# Altium footprint library PCB TV NQM.PcbLib: 11 footprints
Each footprint in its own frame and in the unit in brackets; x right, y up, seen from the top. Pads: shape width x height; smd on the part's side, far side on the other; paste and mask are expansions set on the pad; w line width, h text height; cw(c..) or ccw(c..) is an arc to the next point about the centre after c.
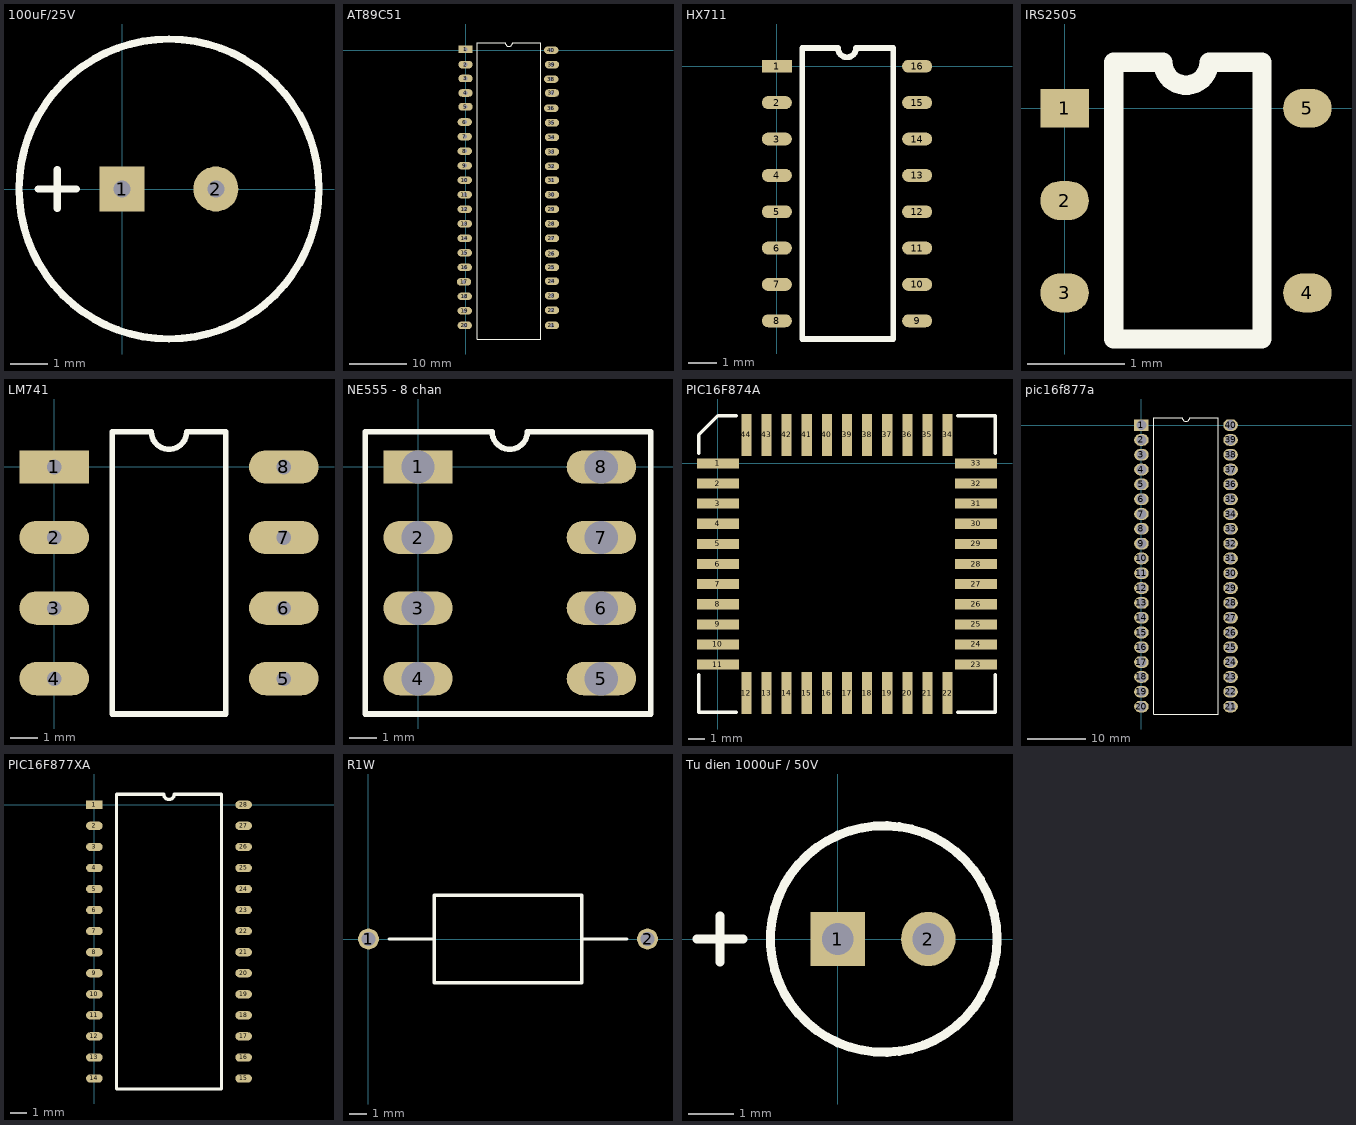
[diagram p0: the footprints below, top view; thin cyan lines are the x and y axes]

## 100uF/25V [mm]
pads (2):
  rect 1.2x1.2 hole 0.45: 1(0,0)
  round 1.2 hole 0.45: 2(2.5,0)
Top Overlay:
  circle w0.2: c1.25,0 r4
  lines w0.2: -2.243,0 -1.227,0 ; -1.735,-0.508 -1.735,0.508
3D body "User Library-UVR1E101MED-100uf 25V-1.STEP": height 11.01, standoff -2.49, extent -1.88,-3.125 4.42,3.175

## AT89C51 [mm]
pads (40):
  rect 2.5x1.33 hole 0.69: 1(0,0.127)
  oval 2.5x1.33 hole 0.69: 2(0,-2.54) 3(0,-4.953) 4(0,-7.493) 5(0,-9.906) 6(-0.127,-12.573) 7(-0.127,-15.113) 8(-0.127,-17.653) 9(-0.127,-20.193) 10(-0.127,-22.733) 11(-0.127,-25.273) 12(-0.127,-27.813) 13(-0.127,-30.353) 14(-0.127,-32.893) 15(-0.127,-35.433) 16(-0.127,-37.973) 17(-0.254,-40.513) 18(-0.127,-43.053) 19(-0.127,-45.593) 20(-0.127,-48.133) 21(15.113,-48.133) 22(15.113,-45.466) 23(15.113,-42.926) 24(15.113,-40.386) 25(15.113,-37.973) 26(15.113,-35.56) 27(15.113,-32.893) 28(15.113,-30.353) 29(15.113,-27.813) 30(15.113,-25.273) 31(15.113,-22.733) 32(15.113,-20.32) 33(15.113,-17.78) 34(15.113,-15.24) 35(15.113,-12.7) 36(14.986,-10.16) 37(15.113,-7.493) 38(14.986,-5.08) 39(15.113,-2.54) 40(14.986,0)
Top Overlay:
  lines w0.2: 2.085,-50.505 2.085,1.295 6.953,1.295 ccw(c7.6,1.295) 8.247,1.295 13.115,1.295 13.115,-50.505 2.085,-50.505
3D body "User Library-PDIP40.STEP": height 5, standoff -3.17, extent -0.257,-50.303 15.243,2.297

## HX711 [mm]
pads (16):
  rect 1.05x0.45 smd: 1(0,0)
  oval 1.05x0.45 smd: 2(0,-1.27) 3(0,-2.54) 4(0,-3.81) 5(0,-5.08) 6(0,-6.35) 7(0,-7.62) 8(0,-8.89) 9(4.9,-8.89) 10(4.9,-7.62) 11(4.9,-6.35) 12(4.9,-5.08) 13(4.9,-3.81) 14(4.9,-2.54) 15(4.9,-1.27) 16(4.9,0)
Top Overlay:
  lines w0.2: 0.889,-9.525 1.683,-9.525 3.27,-9.525 4.064,-9.525 4.064,0.635 2.768,0.635 cw(c2.45,0.635) 2.133,0.635 0.889,0.635 0.889,-9.525
3D body "bu4094bcf-e2.stp": height 1.51, standoff -0.1, extent -0.56,-9.445 5.64,0.555

## IRS2505 [mm]
pads (5):
  rect 0.5x0.4 smd: 1(0,0)
  oval 0.5x0.4 smd: 2(0,-0.95) 3(0,-1.9) 4(2.5,-1.9) 5(2.5,0)
Top Overlay:
  lines w0.2: 0.508,-2.375 2.032,-2.375 2.032,0.475 1.488,0.475 cw(c1.25,0.475) 1.012,0.475 0.508,0.475 0.508,-2.375

## LM741 [mm]
pads (8):
  rect 2.5x1.2 hole 0.53: 1(0,0)
  oval 2.5x1.2 hole 0.53: 2(0,-2.54) 3(0,-5.08) 4(0,-7.62) 5(8.26,-7.62) 6(8.26,-5.08) 7(8.26,-2.54) 8(8.26,0)
Top Overlay:
  lines w0.2: 2.085,-8.89 2.085,1.27 3.495,1.27 ccw(c4.13,1.27) 4.765,1.27 6.175,1.27 6.175,-8.89 2.085,-8.89
3D body "lm741cn.stp": height 4.21, standoff -3.99, extent -1.059,-8.446 9.441,1.143

## NE555 - 8 chan [mm]
pads (8):
  rect 2.5x1.2 hole 1.2: 1(0,0)
  oval 2.5x1.2 hole 1.2: 2(0,-2.54) 3(0,-5.08) 4(0,-7.62) 5(6.6,-7.62) 6(6.6,-5.08) 7(6.6,-2.54) 8(6.6,0)
Top Overlay:
  lines w0.2: -1.905,-8.89 8.382,-8.89 8.382,1.27 3.935,1.27 cw(c3.3,1.27) 2.665,1.27 -1.905,1.27 -1.905,-8.89
3D body "User Library-DIP8-3.STEP": height 4.58, standoff -2.64, extent -0.541,-8.134 7.399,1.016

## PIC16F874A [mm]
pads (44):
  rect 2.5x0.6 smd: 1(0,0) 2(0,-1.2) 3(0,-2.4) 4(0,-3.6) 5(0,-4.8) 6(0,-6) 7(0,-7.2) 8(0,-8.4) 9(0,-9.6) 10(0,-10.8) 11(0,-12) 23(15.4,-12) 24(15.4,-10.8) 25(15.4,-9.6) 26(15.4,-8.4) 27(15.4,-7.2) 28(15.4,-6) 29(15.4,-4.8) 30(15.4,-3.6) 31(15.4,-2.4) 32(15.4,-1.2) 33(15.4,0)
  rect 0.6x2.5 smd: 12(1.7,-13.7) 13(2.9,-13.7) 14(4.1,-13.7) 15(5.3,-13.7) 16(6.5,-13.7) 17(7.7,-13.7) 18(8.9,-13.7) 19(10.1,-13.7) 20(11.3,-13.7) 21(12.5,-13.7) 22(13.7,-13.7) 34(13.7,1.7) 35(12.5,1.7) 36(11.3,1.7) 37(10.1,1.7) 38(8.9,1.7) 39(7.7,1.7) 40(6.5,1.7) 41(5.3,1.7) 42(4.1,1.7) 43(2.9,1.7) 44(1.7,1.7)
Top Overlay:
  lines w0.2: -1.15,-12.6 -1.15,-14.85 1.1,-14.85 ; -1.15,0.6 -1.15,1.7 0,2.85 1.1,2.85 ; 14.3,-14.85 16.55,-14.85 16.55,-12.6 ; 14.3,2.85 16.55,2.85 16.55,0.6

## pic16f877a [mm]
pads (40):
  rect 2.5x2 hole 1.7: 1(0,0)
  oval 2.5x2 hole 1.7: 2(0,-2.54) 3(0,-5.08) 4(0,-7.62) 5(0,-10.16) 6(0,-12.7) 7(0,-15.24) 8(0,-17.78) 9(0,-20.32) 10(0,-22.86) 11(0,-25.4) 12(0,-27.94) 13(0,-30.48) 14(0,-33.02) 15(0,-35.56) 16(0,-38.1) 17(0,-40.64) 18(0,-43.18) 19(0,-45.72) 20(0,-48.26) 21(15.28,-48.26) 22(15.28,-45.72) 23(15.28,-43.18) 24(15.28,-40.64) 25(15.28,-38.1) 26(15.28,-35.56) 27(15.28,-33.02) 28(15.28,-30.48) 29(15.28,-27.94) 30(15.28,-25.4) 31(15.28,-22.86) 32(15.28,-20.32) 33(15.28,-17.78) 34(15.28,-15.24) 35(15.28,-12.7) 36(15.28,-10.16) 37(15.28,-7.62) 38(15.28,-5.08) 39(15.28,-2.54) 40(15.28,0)
Top Overlay:
  lines w0.2: 2.085,-49.53 13.195,-49.53 13.195,1.27 8.275,1.27 cw(c7.64,1.27) 7.005,1.27 2.085,1.27 2.085,-49.53
3D body "User Library-PIC16F877.STEP": height 4.28, standoff -2.2, extent -0.251,-50.419 15.999,1.581

## PIC16F877XA [mm]
pads (28):
  rect 1x0.5 smd: 1(0,0)
  oval 1x0.5 smd: 2(0,-1.27) 3(0,-2.54) 4(0,-3.81) 5(0,-5.08) 6(0,-6.35) 7(0,-7.62) 8(0,-8.89) 9(0,-10.16) 10(0,-11.43) 11(0,-12.7) 12(0,-13.97) 13(0,-15.24) 14(0,-16.51) 15(9,-16.51) 16(9,-15.24) 17(9,-13.97) 18(9,-12.7) 19(9,-11.43) 20(9,-10.16) 21(9,-8.89) 22(9,-7.62) 23(9,-6.35) 24(9,-5.08) 25(9,-3.81) 26(9,-2.54) 27(9,-1.27) 28(9,0)
Top Overlay:
  lines w0.2: 1.335,-17.145 7.665,-17.145 7.665,0.635 4.817,0.635 cw(c4.5,0.635) 4.182,0.635 1.335,0.635 1.335,-17.145

## R1W [mm]
pads (2):
  round 1.2 hole 0.8: 1(0,0) 2(16,0)
Top Overlay:
  lines w0.2: 1.2,0 3.775,0 ; 12.225,0 14.8,0 ; 3.775,0 3.775,2.5 12.225,2.5 12.225,-2.5 3.775,-2.5 3.775,0

## Tu dien 1000uF / 50V [mm]
pads (2):
  rect 1.2x1.2 hole 0.7: 1(0,0)
  round 1.2 hole 0.7: 2(2,0)
Top Overlay:
  circle w0.2: c1.016,0 r2.5
  lines w0.2: -3.104,0 -2.088,0 ; -2.596,-0.508 -2.596,0.508
3D body "User Library-capacity.STEP": height 12.51, standoff -9.99, extent -2.095,-4.191 5.905,3.809